# EAGLE library part SHT31 (library Deegou_IC)
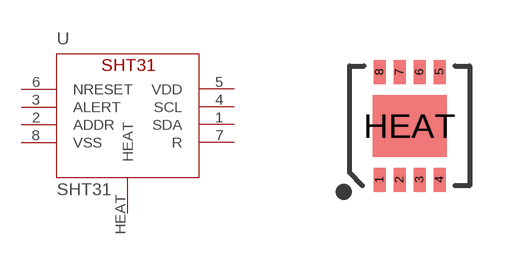
[diagram p187: symbol with the pads of DFN8; footprint DFN8]

Designator prefix U

## SHT31  [DFN8]
1  SDA
2  ADDR
3  ALERT
4  SCL
5  VDD
6  NRESET
7  R
8  VSS
HEAT  HEAT

## Footprint DFN8 (pad centres in mm)
smd 0.3 x 0.6: 1 -0.75,-1.35; 2 -0.25,-1.35; 3 0.25,-1.35; 4 0.75,-1.35; 5 0.75,1.35; 6 0.25,1.35; 7 -0.25,1.35; 8 -0.75,1.35
smd 1.85 x 1.55: HEAT 0,0